# Altium schematic symbol library RR71A221MDN1PH.SchLib: 1 symbol
Pins are listed as number, name and electrical type; pins without a type are passive.

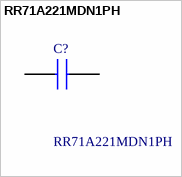
[diagram p0: symbol RR71A221MDN1PH]

## RR71A221MDN1PH
designator C?
Aluminum Organic Polymer Capacitors 220uF 10 Volts 20%; Manufacturer_Name: Nichicon; Geometry.Height: 14mm; Mouser Part Number: 647-RR71A221MDN1PH; Mouser Price/Stock: https://www.mouser.co.uk/ProductDetail/Nichicon/RR71A221MDN1PH?qs=JgOBn5pVFoqscRXN9wfnRw%3D%3D; Manufacturer_Part_Number: RR71A221MDN1PH; Datasheet Link: *
footprint CAPPRD500W60D1000H1400
pins: 1 +, 2 -